# EAGLE library part FSA553 (library Master)
FSA553 - Depletion Mode Analog Switch Datasheet: https://www.fairchildsemi.com/datasheets/FS/FSA553.pdf
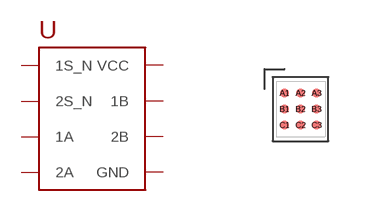
[diagram p3: symbol with the pads of 9-UFBGA-NSMD; footprint 9-UFBGA-NSMD]

Designator prefix U

## FSA553  [9-UFBGA-NSMD]
A1  1A
A2  VCC
A3  1B
B1  2A
B3  2B
C1  1S_N
C2  GND
C3  2S_N

## Footprint 9-UFBGA-NSMD (pad centres in mm)
smd 0.21 x 0.21: A1 -0.4,0.4; A2 0,0.4; A3 0.4,0.4; B1 -0.4,0; B2 0,0; B3 0.4,0; C1 -0.4,-0.4; C2 0,-0.4; C3 0.4,-0.4